# EAGLE library part USBB-1J (library den)
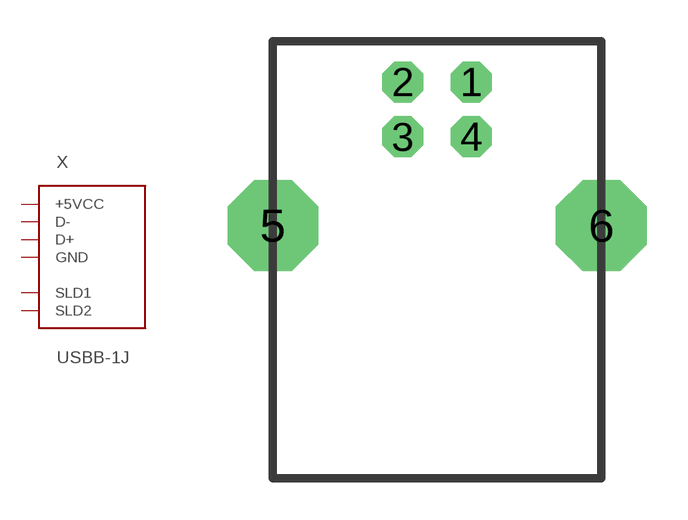
[diagram p33: symbol with the pads of USBB-1J; footprint USBB-1J]

Designator prefix X

## USBB-1J  [USBB-1J]
1  +5VCC
2  D-
3  D+
4  GND
5  SLD1
6  SLD2

## Footprint USBB-1J (pad centres in mm)
drill 0.9 pad 1.5 octagon: 1 1.25,1; 2 -1.25,1; 3 -1.25,-1; 4 1.25,-1
drill 2.3 octagon: 5 -6,-4.25; 6 6,-4.25